# Altium footprint library PCB - LEADED - SOT-23 - DIODES SOT-23-5 K.PCBLIB: 1 footprints
Each footprint in its own frame and in the unit in brackets; x right, y up, seen from the top. Pads: shape width x height; smd on the part's side, far side on the other; paste and mask are expansions set on the pad; w line width, h text height; cw(c..) or ccw(c..) is an arc to the next point about the centre after c.
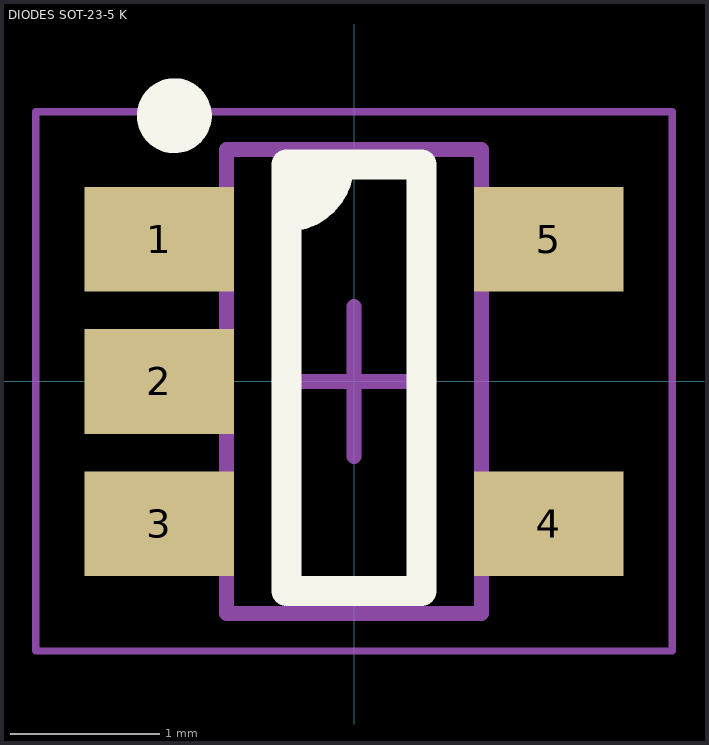
[diagram p0: the footprint, top view; thin cyan lines are the x and y axes]

## DIODES SOT-23-5 K [mm] "SOT23, 5-Leads, Body 3.00x2.85mm, Pitch 0.95mm, IPC Medium Density"
height 1.45
pads (5):
  rect 1x0.7 smd: 1(-1.3,0.95) 2(-1.3,0) 3(-1.3,-0.95) 4(1.3,-0.95) 5(1.3,0.95)
Top Overlay:
  circle w0.25: c-1.2,1.775 r0.125
  region: -0.1,1.45 -0.4,1.45 -0.4,1.15 -0.45,1.1 -0.3,1.1 -0.2,1.2
  lines w0.2: -0.45,1.1 ccw(c-0.45,1.45) -0.1,1.45 ; -0.45,-1.4 0.45,-1.4 0.45,1.45 -0.45,1.45 -0.45,-1.4
Mechanical 13:
  lines w0.1: -0.85,-1.55 0.85,-1.55 0.85,1.55 -0.85,1.55 -0.85,-1.55
Mechanical 15:
  lines w0.05: -2.125,-1.8 2.125,-1.8 2.125,1.8 -2.125,1.8 -2.125,-1.8
Mechanical 2 (Mech9):
  lines w0.1: -0.5,0 0.5,0 ; 0,-0.5 0,0.5
3D body "DIODES INC - SOT-23-5 - N.step": height 1.45, standoff 0, extent -1.5,-1.55 1.5,1.55